# Altium schematic symbol library HLK-PM03_2020.SchLib: 1 symbol
Pins are listed as number, name and electrical type; pins without a type are passive.

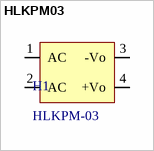
[diagram p0: symbol HLKPM03]

## HLKPM03
designator H1, comment HLKPM-03
footprint PCBComponent_1
pins: 1 AC, 2 AC, 3 -Vo, 4 +Vo